# EAGLE library part PCF8574 (library hosho)
I2C-Bus Remote 8-bit I/O expander http://www.semiconductors.philips.com/acrobat_download/datasheets/PCF8574_4.pdf
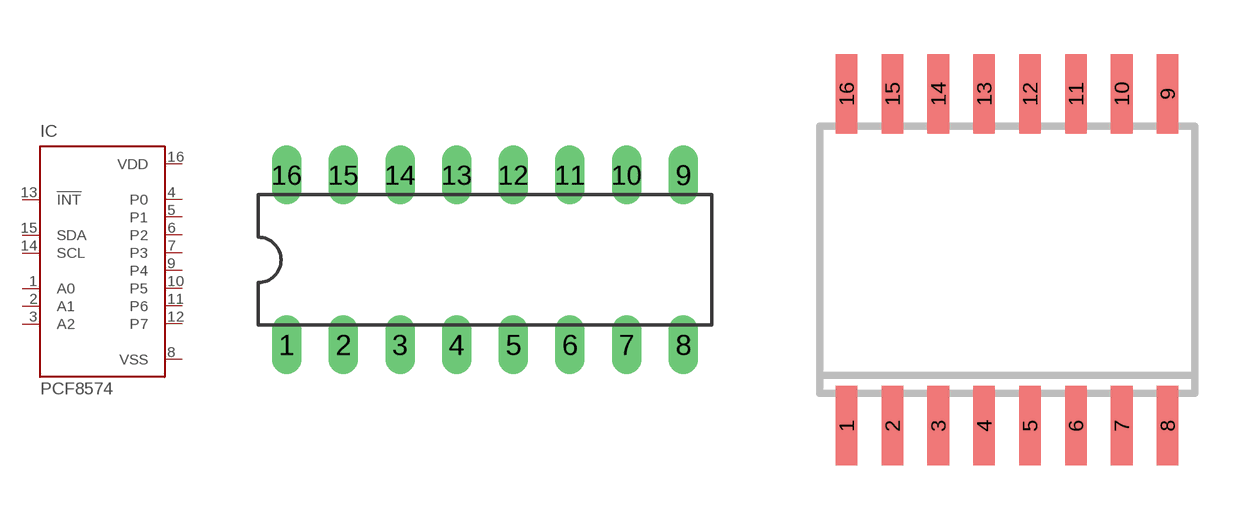
[diagram p7: symbol with the pads of DIL16; footprints DIL16, SO16W]

Designator prefix IC

## PCF8574P (MPN: PCF8574PN; OC_FARNELL: 204020; OC_NEWARK: 11N8515)  [DIL16]
1  A0  in
2  A1  in
3  A2  in
4  P0
5  P1
6  P2
7  P3
8  VSS  pwr
9  P4
10  P5
11  P6
12  P7
13  !INT  out
14  SCL  in
15  SDA
16  VDD  pwr

## PCF8574T (MPN: PCF8574T/3,512; OC_FARNELL: 1201255; OC_NEWARK: 70R6870)  [SO16W]
Pads as for DIL16

## PCF8574TS (MPN: PCF8574TS/3,118; OC_FARNELL: 1506644; OC_NEWARK: 70R6873)  [SSOP20]
1  !INT  out
2  SCL  in
4  SDA
5  VDD  pwr
6  A0  in
7  A1  in
9  A2  in
10  P0
11  P1
12  P2
14  P3
15  VSS  pwr
16  P4
17  P5
19  P6
20  P7

## Footprint DIL16 (pad centres in mm)
Dual In Line Package
drill 0.813 long: 1 -8.89,-3.81; 2 -6.35,-3.81; 3 -3.81,-3.81; 4 -1.27,-3.81; 5 1.27,-3.81; 6 3.81,-3.81; 7 6.35,-3.81; 8 8.89,-3.81; 9 8.89,3.81; 10 6.35,3.81; 11 3.81,3.81; 12 1.27,3.81; 13 -1.27,3.81; 14 -3.81,3.81; 15 -6.35,3.81; 16 -8.89,3.81

## Footprint SO16W (pad centres in mm)
Small Outline Package 7.6 x 10.6 mm
smd 0.6 x 2.2: 1 -4.445,-4.6; 2 -3.175,-4.6; 3 -1.905,-4.6; 4 -0.635,-4.6; 5 0.635,-4.6; 6 1.905,-4.6; 7 3.175,-4.6; 8 4.445,-4.6; 9 4.445,4.6; 10 3.175,4.6; 11 1.905,4.6; 12 0.635,4.6; 13 -0.635,4.6; 14 -1.905,4.6; 15 -3.175,4.6; 16 -4.445,4.6

## Footprint SSOP20 (pad centres in mm)
plastic shrink small outline package 20 leads; body width 4.4 mm SOT266-1 Source: http://www.semiconductors.philips.com/acrobat_download/datasheets/PCF8574_4.pdf
smd 0.35 x 1.2: 1 -2.925,-2.85; 2 -2.275,-2.85; 3 -1.625,-2.85; 4 -0.975,-2.85; 5 -0.325,-2.85; 6 0.325,-2.85; 7 0.975,-2.85; 8 1.625,-2.85; 9 2.275,-2.85; 10 2.925,-2.85; 11 2.925,2.85; 12 2.275,2.85; 13 1.625,2.85; 14 0.975,2.85; 15 0.325,2.85; 16 -0.325,2.85; 17 -0.975,2.85; 18 -1.625,2.85; 19 -2.275,2.85; 20 -2.925,2.85